# Altium footprint library MT_Device.PcbLib: 67 footprints (part 1 of 5)
Each footprint in its own frame and in the unit in brackets; x right, y up, seen from the top. Pads: shape width x height; smd on the part's side, far side on the other; paste and mask are expansions set on the pad; w line width, h text height; cw(c..) or ccw(c..) is an arc to the next point about the centre after c.
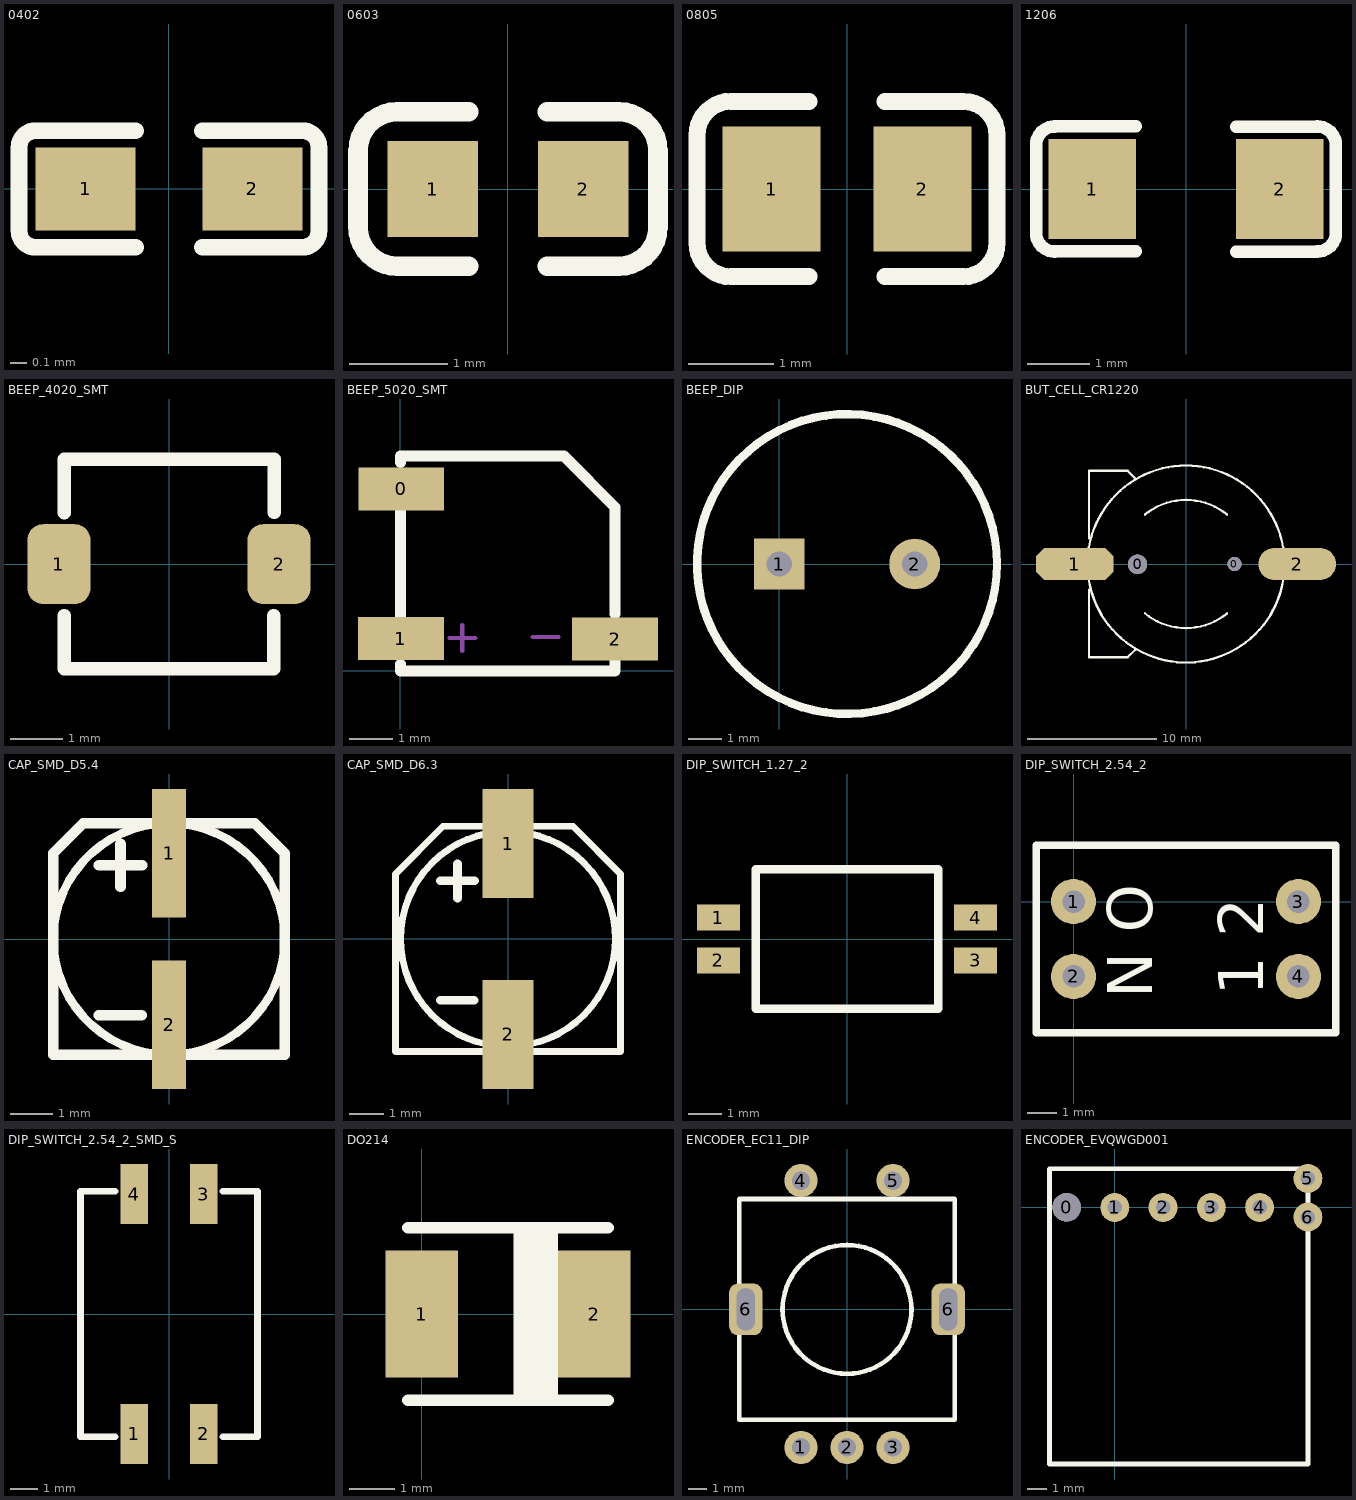
[diagram p0: the footprints below, top view; thin cyan lines are the x and y axes]

## 0402 [mm]
pads (2):
  rect 0.6x0.5 smd: 1(-0.5,0) 2(0.5,0)
Top Overlay:
  lines w0.1: -0.2,-0.35 -0.8,-0.35 cw(c-0.8,-0.25) -0.9,-0.25 -0.9,0.25 cw(c-0.8,0.25) -0.8,0.35 -0.2,0.35 ; 0.2,-0.35 0.8,-0.35 ccw(c0.8,-0.25) 0.9,-0.25 0.9,0.25 ccw(c0.8,0.25) 0.8,0.35 0.2,0.35
3D body "Ceramic_Capacitor_0402_h20mil.step": height 0.52, standoff 0.01, extent -0.508,-0.254 0.508,0.254

## 0603 [mm]
pads (2):
  rect 0.93x0.98 smd: 1(-0.77,0) 2(0.77,0)
Top Overlay:
  lines w0.2: -0.4,-0.79 -1.135,-0.79 cw(c-1.135,-0.39) -1.535,-0.39 -1.535,0.39 cw(c-1.135,0.39) -1.135,0.79 -0.4,0.79 ; 0.4,-0.79 1.135,-0.79 ccw(c1.135,-0.39) 1.535,-0.39 1.535,0.39 ccw(c1.135,0.39) 1.135,0.79 0.4,0.79
3D body "User Library-0603 SMD Capacitor.STEP": height 0.3, standoff 0, extent -0.8,-0.4 0.8,0.4

## 0805 [mm]
pads (2):
  rect 1.16x1.47 smd: 1(-0.89,0) 2(0.89,0)
Top Overlay:
  lines w0.2: -0.45,-1.035 -1.37,-1.035 cw(c-1.37,-0.635) -1.77,-0.635 -1.77,0.635 cw(c-1.37,0.635) -1.37,1.035 -0.45,1.035 ; 0.45,-1.035 1.37,-1.035 ccw(c1.37,-0.635) 1.77,-0.635 1.77,0.635 ccw(c1.37,0.635) 1.37,1.035 0.45,1.035
3D body "User Library-0805 SMD Capacitor.STEP": height 0.77, standoff -0.01, extent -0.999,-0.625 1.001,0.625

## 1206 [mm]
pads (2):
  rect 1.4x1.6 smd: 1(-1.5,0) 2(1.5,0)
Top Overlay:
  lines w0.2: -0.8,-1 -2.1,-1 cw(c-2.1,-0.7) -2.4,-0.7 -2.4,0.7 cw(c-2.1,0.7) -2.1,1 -0.8,1 ; 0.8,-1 2.1,-1 ccw(c2.1,-0.7) 2.4,-0.7 2.4,0.7 ccw(c2.1,0.7) 2.1,1 0.8,1
3D body "CAPC1206.STEP": height 1.3, standoff -0.01, extent -1.975,-0.976 1.975,0.976

## BEEP_4020_SMT [mm]
pads (2):
  rrect50% 1.2x1.524 / inner rrect50% 0x0 / far side rrect50% 0x0 all layers, no hole: 1(-2.1,0) 2(2.1,0)
Top Overlay:
  lines w0.254: -2,-0.98 -2,-2 2,-2 2,-0.98 ; -2,0.98 -2,2 2,2 ; 2.007,0.982 2.007,2.002
3D body: height 2, standoff 0.03, extent -2,-2 2,2

## BEEP_5020_SMT [mm]
pads (3):
  rect 2x1 smd: 0(0.02,4.238) 1(0.012,0.75) 2(5,0.738)
Top Overlay:
  lines w0.254: 0,0.152 0,0 5,0 5,0.225 ; 0,1.27 0,3.708 ; 0,4.851 0,5 3.81,5 5,3.81 5,1.325
Mechanical 15:
  lines w0.1: 1.142,0.762 1.742,0.762 ; 1.442,0.462 1.442,1.062 ; 3.083,0.787 3.683,0.787
3D body "User Library-BEEP-5020.STEP": height 2, standoff -0.1, extent -0.1,-0.11 5.1,5.09

## BEEP_DIP [mil]
pads (2):
  rect 60x60 hole 30: 1(0,0)
  round 60 hole 30: 2(160,0)
Top Overlay:
  circle w10: c80,0 r177.17
3D body: height 216.54, standoff 0, extent -97.17,-177.17 257.17,177.17

## BUT_CELL_CR1220 [mm]
pads (4):
  round 1.5 hole 1.5 unplated: 0(-3.752,-0.025)
  round 1.1 hole 1.1 unplated: 0(3.748,0)
  oct 6x2.5 smd: 1(-8.602,0)
  oval 6x2.5 smd: 2(8.598,0)
Top Overlay:
  lines w0.178: -7.576,-0.833 ccw(c-0.002,0) 7.573,-0.833 ; -7.576,0.833 cw(c-0.002,0) -0.002,7.62 cw(c-0.002,0) 7.573,0.833 ; -7.502,-2 -7.502,-7.2 -4.502,-7.2 -3.927,-6.625 ; -7.502,2 -7.502,7.2 -4.502,7.2 -3.902,6.6 ; -3.177,-3.81 ccw(c-0.002,0) 3.171,-3.812 ; -3.171,3.815 cw(c-0.002,0) 3.171,3.812
3D body "CR1220.STEP": height 4.04, standoff -0.9, extent -9.49,-7.51 9.01,7.487

## CAP_SMD_D5.4 [mm]
pads (2):
  rect 0.8x3 smd: 1(0,2) 2(0,-2)
Top Overlay:
  circle w0.2: c0,0 r2.7
  lines w0.254: -1.64,-1.78 -0.64,-1.78 ; -1.63,1.72 -0.63,1.72 ; -1.13,1.22 -1.13,2.22 ; -2.7,-2.7 -2.7,2 -2,2.7 2,2.7 2.7,2 2.7,-2.7 -2.7,-2.7
3D body "CAPAE530X550N-(C).stp": height 5.8, standoff 0, extent -2.65,-3 2.65,3

## CAP_SMD_D6.3 [mm]
pads (2):
  rect 1.5x3.2 smd: 1(0,2.794) 2(0,-2.8)
Top Overlay:
  circle w0.2: c0,0 r3.15
  lines w0.2: -3.302,-3.302 -3.302,1.905 -1.905,3.302 1.905,3.302 3.302,1.905 3.302,-3.302 -3.302,-3.302
  lines w0.254: -1.99,-1.8 -0.99,-1.8 ; -1.98,1.7 -0.98,1.7 ; -1.48,1.2 -1.48,2.2
3D body "CAPAE660X550N-(D).stp": height 5.8, standoff 0, extent -3.3,-3.65 3.3,3.65

## DIP_SWITCH_1.27_2 [mm]
pads (4):
  rect 1.27x0.76 smd: 1(-3.81,0.635) 2(-3.81,-0.635) 3(3.81,-0.635) 4(3.81,0.635)
Top Overlay:
  lines w0.254: -2.7,-2.07 -2.7,2.07 2.7,2.07 2.7,-2.07 -2.7,-2.07
3D body "SMT_switch_02.stp": height 2.37, standoff 0, extent -4.11,-1.82 4.03,1.84

## DIP_SWITCH_2.54_2 [mil]
pads (4):
  round 60 hole 30: 1(0,0) 2(0,-100) 3(300,0) 4(300,-100)
Top Overlay:
  lines w10: -50,-175 350,-175 350,75 -50,75 -50,0 -50,-175
  text "N O" at 104.72,-128.74 h60
  text "1 2" at 253.15,-125.59 h60
3D body "DS1040-02 (DIP_switch).stp": height 267.72, standoff -151.57, extent -44.88,-179.33 344.88,78.15

## DIP_SWITCH_2.54_2_SMD_S [mm]
pads (4):
  rect 1x2.2 smd: 1(-1.27,-4.4) 2(1.27,-4.4) 3(1.27,4.4) 4(-1.27,4.4)
Top Overlay:
  lines w0.254: -1.98,-4.5 -3.24,-4.5 -3.24,4.5 -1.98,4.5 ; 1.98,-4.5 3.24,-4.5 3.24,4.5 1.98,4.5
3D body "DSPV02LSGET.STEP": height 6.6, standoff 0, extent -3.24,-5.608 3.24,4.492

## DO214 [mm]
pads (2):
  rect 1.6x2.8 smd: 1(0,0) 2(3.8,0)
Top Overlay:
  lines w0.254: -0.3,-1.9 4.1,-1.9 ; -0.3,1.9 4.1,1.9 ; 2.15,-1.9 2.15,1.9 ; 2.39,-1.9 2.39,1.9 ; 2.63,-1.9 2.63,1.9 ; 2.87,-1.9 2.87,1.9
3D body: height 2.2, standoff 0, extent -0.3,-1.9 4.1,1.9

## ENCODER_EC11_DIP [mm]
pads (7):
  round 1.8 hole 1: 1(-2.5,-7.5) 2(0,-7.5) 3(2.5,-7.5) 4(-2.5,7) 5(2.5,7)
  rrect50% 1.8x2.8 hole 2.3 slot 1 at 0 deg: 6(-5.5,0) 6(5.5,0)
Top Overlay:
  circle w0.254: c0,0 r3.5
  lines w0.254: -0.013,-6 -5.85,-6 -5.85,6 0,6 ; 0,-6 5.85,-6 5.85,6 0.013,6
3D body "EC11 Rotary Encoder Dode Switch-15mm .STEP": height 19.5, standoff -3.65, extent -5.857,-7.685 5.856,7.265

## ENCODER_EVQWGD001 [mil]
pads (7):
  round 59.06 hole 59.06: 0(-100,0)
  round 60 hole 30: 1(0,0) 2(100,0) 3(200,0) 4(300,0) 5(400,60) 6(400,-20)
Top Overlay:
  lines w10: -135,-531.5 -135,80 0,80 400,80 400,-531.5 -135,-531.5
3D body "Encoder.STEP": height 521.65, standoff -137.8, extent -128.54,-549.21 416.73,104.33